# Altium schematic symbol library CON5.SchLib: 1 symbol
Pins are listed as number, name and electrical type; pins without a type are passive.

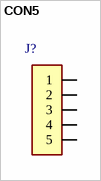
[diagram p0: symbol CON5]

## CON5
designator J?, comment 292230-5  (value not drawn)
ID: 292230-5; PDF: http://www.te.com/commerce/DocumentDelivery/DDEController?Action=srchrtrv&DocNm=292230&DocType=Customer+Drawing&DocLang=English; PRICE: 0.95000; BUY_LINK: http://www.digikey.com/product-detail/en/292230-5/A98710CT-ND/1855504
footprint 5PIN
pins: 1, 2, 3, 4, 5